# EAGLE library part AD5721R (library HyTechDevices)
1-Channel 12V 12-Bit DAC Datasheet <https://www.mouser.com/datasheet/2/609/ad5761r_5721r-1501754.pdf>
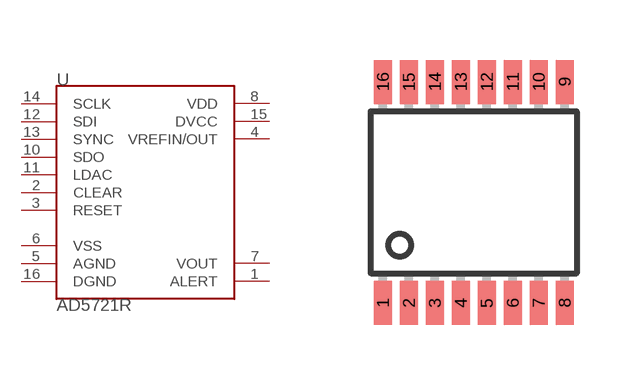
[diagram p42: symbol with the pads of TSSOP-16; footprint TSSOP-16]

Designator prefix U

## AD5721R (CHANNELS: 1; DKPN: AD5721RBRUZ-ND; MOPN: 584-AD5721RBRUZ; RESOLUTION: 12-Bit)  [TSSOP-16]
1  ALERT  pas
2  CLEAR  pas
3  RESET  pas
4  VREFIN/OUT  pas
5  AGND  pas
6  VSS  pas
7  VOUT  pas
8  VDD  pas
10  SDO  pas
11  LDAC  pas
12  SDI  pas
13  SYNC  pas
14  SCLK  pas
15  DVCC  pas
16  DGND  pas

## Footprint TSSOP-16 (pad centres in mm)
16-Lead Thin Shrink Small Outline Package TSSOP
smd 0.45 x 1.1: 1 -2.275,-2.618; 2 -1.625,-2.618; 3 -0.975,-2.618; 4 -0.325,-2.618; 5 0.325,-2.618; 6 0.975,-2.618; 7 1.625,-2.618; 8 2.275,-2.618; 9 2.275,2.918; 10 1.625,2.918; 11 0.975,2.918; 12 0.325,2.918; 13 -0.325,2.918; 14 -0.975,2.918; 15 -1.625,2.918; 16 -2.275,2.918